# EAGLE library part LTC2941 (library LX_Eagle_Lib)
Analog Devices LTC2941-1 Li-Ion, Li-Polymer Battery Fuel Gauge Mfr#: LTC2941CDCB-1#TRMPBF
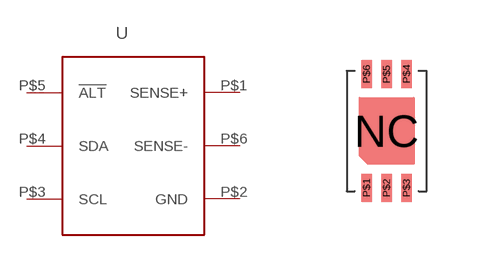
[diagram p8: symbol with the pads of DFN6; footprint DFN6]

Designator prefix U

## LTC2941  [DFN6]
P$1  SENSE+
P$2  GND
P$3  SCL
P$4  SDA
P$5  !ALT
P$6  SENSE-

## Footprint DFN6 (pad centres in mm)
6-Lead Plastic DFN (2mm x 3mm) DCB Package
smd 1.2 x 1.2: NC 0,0
smd 0.26 x 0.71: P$1 -0.5,-1.425; P$2 0,-1.425; P$3 0.5,-1.425; P$4 0.5,1.425; P$5 0,1.425; P$6 -0.5,1.425